# Altium integrated library ON Semi Logic Delay Line.IntLib: 4 symbols
Pins are listed as number, name and electrical type; pins without a type are passive.

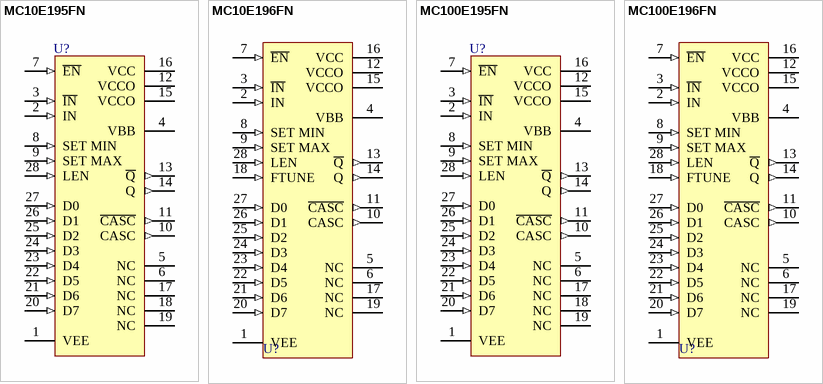
[diagram p0: symbols MC10E195FN to MC100E196FN]

## MC10E195FN
designator U?
Programmable Delay Chip; Published: 15-Apr-2002; LatestRevisionDate: 13-Apr-2006; LatestRevisionNote: IPC-7351 Footprint Added.; DatasheetVersion: 1999; PackageVersion: Feb-2000; PackageReference: 776-02; Publisher: Altium Limited; PackageDescription: 28-Pin Leaded Chip Carrier 1.27 mm Pitch; ComponentLink1Description: Manufacturer Link; ComponentLink1URL: http://www.onsemi.com/; ComponentLink2Description: Datasheet; ComponentLink2URL: http://www.onsemi.com/pub/Collateral/MC10E195-D.PDF
footprint 776-02_N (Leaded Chip Carrier, 28-Leads, Body 11.5x11.5mm, Pitch 1.27mm, IPC Medium Density)
footprint 776-02_L (Leaded Chip Carrier, 28-Leads, Body 11.5x11.5mm, Pitch 1.27mm, IPC High Density)
footprint 776-02_M (Leaded Chip Carrier, 28-Leads, Body 11.5x11.5mm, Pitch 1.27mm, IPC Low Density)
pins: 1 VEE (power), 2 IN (in), 3 ~{IN} (in), 4 VBB (power), 5 NC, 6 NC, 7 ~{EN} (in), 8 SET MIN (in), 9 SET MAX (in), 10 CASC (out), 11 ~{CASC} (out), 12 VCCO (power), 13 ~{Q} (out), 14 Q (out), 15 VCCO (power), 16 VCC (power), 17 NC, 18 NC, 19 NC, 20 D7 (in), 21 D6 (in), 22 D5 (in), 23 D4 (in), 24 D3 (in), 25 D2 (in), 26 D1 (in), 27 D0 (in), 28 LEN (in)

## MC10E196FN
designator U?
Programmable Delay Chip; Published: 15-Apr-2002; LatestRevisionDate: 13-Apr-2006; LatestRevisionNote: IPC-7351 Footprint Added.; DatasheetVersion: 1996; PackageVersion: Feb-2000; PackageReference: 776-02; Publisher: Altium Limited; PackageDescription: 28-Pin Leaded Chip Carrier 1.27 mm Pitch; ComponentLink1Description: Manufacturer Link; ComponentLink1URL: http://www.onsemi.com/; ComponentLink2Description: Datasheet; ComponentLink2URL: http://www.onsemi.com/pub/Collateral/MC10E196-D.PDF
footprint 776-02_N (Leaded Chip Carrier, 28-Leads, Body 11.5x11.5mm, Pitch 1.27mm, IPC Medium Density)
footprint 776-02_L (Leaded Chip Carrier, 28-Leads, Body 11.5x11.5mm, Pitch 1.27mm, IPC High Density)
footprint 776-02_M (Leaded Chip Carrier, 28-Leads, Body 11.5x11.5mm, Pitch 1.27mm, IPC Low Density)
pins: 1 VEE (power), 2 IN (in), 3 ~{IN} (in), 4 VBB (power), 5 NC, 6 NC, 7 ~{EN} (in), 8 SET MIN (in), 9 SET MAX (in), 10 CASC (out), 11 ~{CASC} (out), 12 VCCO (power), 13 ~{Q} (out), 14 Q (out), 15 VCCO (power), 16 VCC (power), 17 NC, 18 FTUNE (in), 19 NC, 20 D7 (in), 21 D6 (in), 22 D5 (in), 23 D4 (in), 24 D3 (in), 25 D2 (in), 26 D1 (in), 27 D0 (in), 28 LEN (in)

## MC100E195FN
designator U?
Programmable Delay Chip; Published: 15-Apr-2002; LatestRevisionDate: 13-Apr-2006; LatestRevisionNote: IPC-7351 Footprint Added.; DatasheetVersion: 1999; PackageVersion: Feb-2000; PackageReference: 776-02; Publisher: Altium Limited; PackageDescription: 28-Pin Leaded Chip Carrier 1.27 mm Pitch; ComponentLink1Description: Manufacturer Link; ComponentLink1URL: http://www.onsemi.com/; ComponentLink2Description: Datasheet; ComponentLink2URL: http://www.onsemi.com/pub/Collateral/MC10E195-D.PDF
footprint 776-02_N (Leaded Chip Carrier, 28-Leads, Body 11.5x11.5mm, Pitch 1.27mm, IPC Medium Density)
footprint 776-02_L (Leaded Chip Carrier, 28-Leads, Body 11.5x11.5mm, Pitch 1.27mm, IPC High Density)
footprint 776-02_M (Leaded Chip Carrier, 28-Leads, Body 11.5x11.5mm, Pitch 1.27mm, IPC Low Density)
pins: 1 VEE (power), 2 IN (in), 3 ~{IN} (in), 4 VBB (power), 5 NC, 6 NC, 7 ~{EN} (in), 8 SET MIN (in), 9 SET MAX (in), 10 CASC (out), 11 ~{CASC} (out), 12 VCCO (power), 13 ~{Q} (out), 14 Q (out), 15 VCCO (power), 16 VCC (power), 17 NC, 18 NC, 19 NC, 20 D7 (in), 21 D6 (in), 22 D5 (in), 23 D4 (in), 24 D3 (in), 25 D2 (in), 26 D1 (in), 27 D0 (in), 28 LEN (in)

## MC100E196FN
designator U?
Programmable Delay Chip; Published: 15-Apr-2002; LatestRevisionDate: 13-Apr-2006; LatestRevisionNote: IPC-7351 Footprint Added.; DatasheetVersion: 1996; PackageVersion: Feb-2000; PackageReference: 776-02; Publisher: Altium Limited; PackageDescription: 28-Pin Leaded Chip Carrier 1.27 mm Pitch; ComponentLink1Description: Manufacturer Link; ComponentLink1URL: http://www.onsemi.com/; ComponentLink2Description: Datasheet; ComponentLink2URL: http://www.onsemi.com/pub/Collateral/MC10E196-D.PDF
footprint 776-02_N (Leaded Chip Carrier, 28-Leads, Body 11.5x11.5mm, Pitch 1.27mm, IPC Medium Density)
footprint 776-02_L (Leaded Chip Carrier, 28-Leads, Body 11.5x11.5mm, Pitch 1.27mm, IPC High Density)
footprint 776-02_M (Leaded Chip Carrier, 28-Leads, Body 11.5x11.5mm, Pitch 1.27mm, IPC Low Density)
pins: 1 VEE (power), 2 IN (in), 3 ~{IN} (in), 4 VBB (power), 5 NC, 6 NC, 7 ~{EN} (in), 8 SET MIN (in), 9 SET MAX (in), 10 CASC (out), 11 ~{CASC} (out), 12 VCCO (power), 13 ~{Q} (out), 14 Q (out), 15 VCCO (power), 16 VCC (power), 17 NC, 18 FTUNE (in), 19 NC, 20 D7 (in), 21 D6 (in), 22 D5 (in), 23 D4 (in), 24 D3 (in), 25 D2 (in), 26 D1 (in), 27 D0 (in), 28 LEN (in)